# Altium schematic symbol library DP83865DVH.SchLib: 1 symbol
Pins are listed as number, name and electrical type; pins without a type are passive.

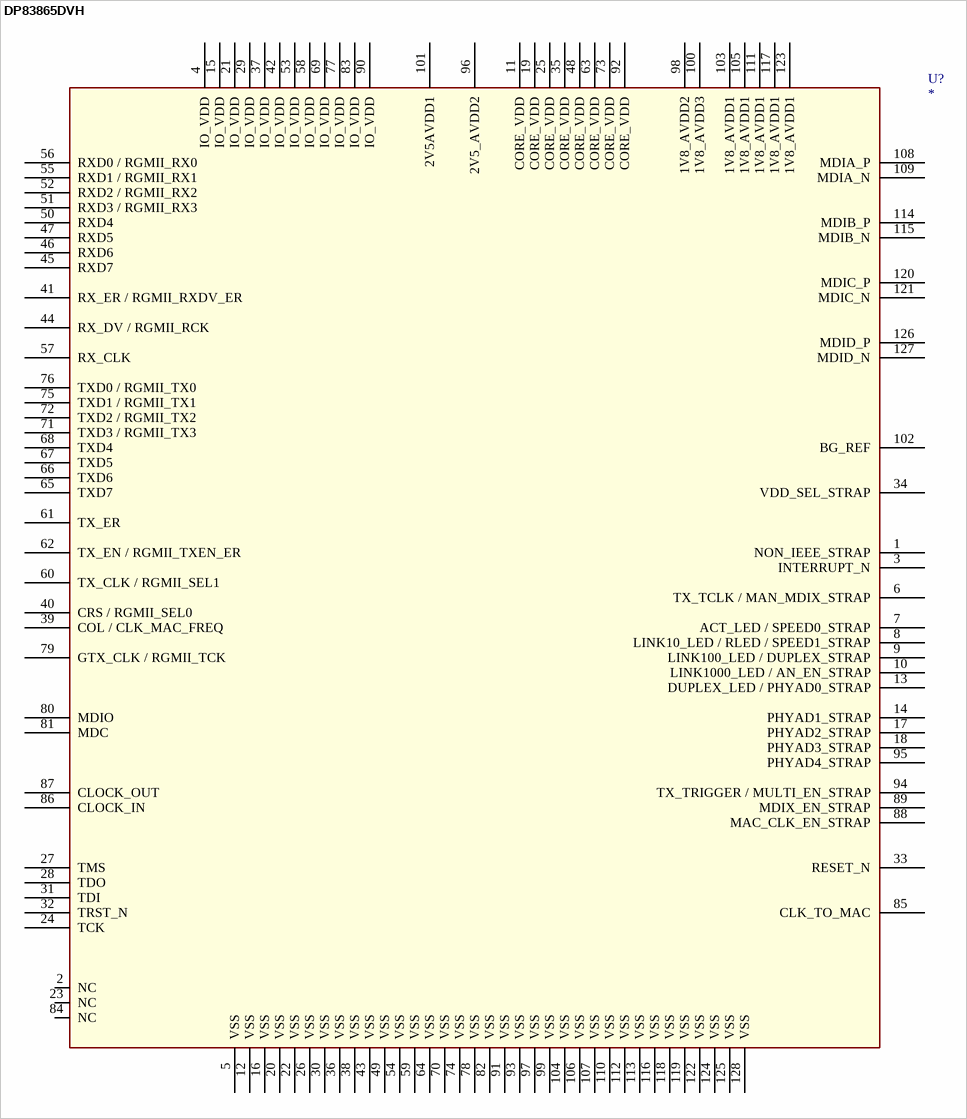
[diagram p0: symbol DP83865DVH]

## DP83865DVH
designator U?
footprint PQFP128
pins: 1 NON_IEEE_STRAP, 2 NC, 3 INTERRUPT_N, 4 IO_VDD (power), 5 VSS (power), 6 TX_TCLK / MAN_MDIX_STRAP, 7 ACT_LED / SPEED0_STRAP, 8 LINK10_LED / RLED / SPEED1_STRAP, 9 LINK100_LED / DUPLEX_STRAP, 10 LINK1000_LED / AN_EN_STRAP, 11 CORE_VDD (power), 12 VSS (power), 13 DUPLEX_LED / PHYAD0_STRAP, 14 PHYAD1_STRAP, 15 IO_VDD (power), 16 VSS (power), 17 PHYAD2_STRAP, 18 PHYAD3_STRAP, 19 CORE_VDD (power), 20 VSS (power), 21 IO_VDD (power), 22 VSS (power), 23 NC, 24 TCK, 25 CORE_VDD (power), 26 VSS (power), 27 TMS, 28 TDO, 29 IO_VDD (power), 30 VSS (power), 31 TDI, 32 TRST_N, 33 RESET_N, 34 VDD_SEL_STRAP, 35 CORE_VDD (power), 36 VSS (power), 37 IO_VDD (power), 38 VSS (power), 39 COL / CLK_MAC_FREQ, 40 CRS / RGMII_SEL0, 41 RX_ER / RGMII_RXDV_ER, 42 IO_VDD (power), 43 VSS (power), 44 RX_DV / RGMII_RCK, 45 RXD7, 46 RXD6, 47 RXD5, 48 CORE_VDD (power), 49 VSS (power), 50 RXD4, 51 RXD3 / RGMII_RX3, 52 RXD2 / RGMII_RX2, 53 IO_VDD (power), 54 VSS (power), 55 RXD1 / RGMII_RX1, 56 RXD0 / RGMII_RX0, 57 RX_CLK, 58 IO_VDD (power), 59 VSS (power), 60 TX_CLK / RGMII_SEL1, 61 TX_ER, 62 TX_EN / RGMII_TXEN_ER, 63 CORE_VDD (power), 64 VSS (power), 65 TXD7, 66 TXD6, 67 TXD5, 68 TXD4, 69 IO_VDD (power), 70 VSS (power), 71 TXD3 / RGMII_TX3, 72 TXD2 / RGMII_TX2, 73 CORE_VDD (power), 74 VSS (power), 75 TXD1 / RGMII_TX1, 76 TXD0 / RGMII_TX0, 77 IO_VDD (power), 78 VSS (power), 79 GTX_CLK / RGMII_TCK, 80 MDIO, 81 MDC, 82 VSS (power), 83 IO_VDD (power), 84 NC, 85 CLK_TO_MAC, 86 CLOCK_IN, 87 CLOCK_OUT, 88 MAC_CLK_EN_STRAP, 89 MDIX_EN_STRAP, 90 IO_VDD (power), 91 VSS (power), 92 CORE_VDD (power), 93 VSS (power), 94 TX_TRIGGER / MULTI_EN_STRAP, 95 PHYAD4_STRAP, 96 2V5_AVDD2 (power), 97 VSS (power), 98 1V8_AVDD2 (power), 99 VSS (power), 100 1V8_AVDD3 (power), 101 2V5AVDD1 (power), 102 BG_REF, 103 1V8_AVDD1 (power), 104 VSS (power), 105 1V8_AVDD1 (power), 106 VSS (power), 107 VSS (power), 108 MDIA_P, 109 MDIA_N, 110 VSS (power), 111 1V8_AVDD1 (power), 112 VSS (power), 113 VSS (power), 114 MDIB_P, 115 MDIB_N, 116 VSS (power), 117 1V8_AVDD1 (power), 118 VSS (power), 119 VSS (power), 120 MDIC_P, 121 MDIC_N, 122 VSS (power), 123 1V8_AVDD1 (power), 124 VSS (power), 125 VSS (power), 126 MDID_P, 127 MDID_N, 128 VSS (power)